# EAGLE library part PLL1707 (library OSSC_HDMI_Audio)
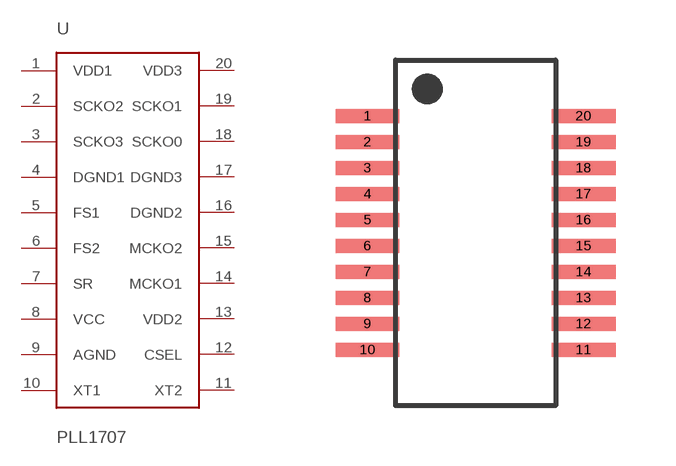
[diagram p0: symbol with the pads of PLL1707; footprint PLL1707]

Designator prefix -

## PLL1707  [PLL1707]
1  VDD1
2  SCKO2
3  SCKO3
4  DGND1
5  FS1
6  FS2
7  SR
8  VCC
9  AGND
10  XT1
11  XT2
12  CSEL
13  VDD2
14  MCKO1
15  MCKO2
16  DGND2
17  DGND3
18  SCKO0
19  SCKO1
20  VDD3

## Footprint PLL1707 (pad centres in mm)
smd 1.6 x 0.35: 1 -2.7,2.925; 2 -2.7,2.275; 3 -2.7,1.625; 4 -2.7,0.975; 5 -2.7,0.325; 6 -2.7,-0.325; 7 -2.7,-0.975; 8 -2.7,-1.625; 9 -2.7,-2.275; 10 -2.7,-2.925; 11 2.7,-2.925; 12 2.7,-2.275; 13 2.7,-1.625; 14 2.7,-0.975; 15 2.7,-0.325; 16 2.7,0.325; 17 2.7,0.975; 18 2.7,1.625; 19 2.7,2.275; 20 2.7,2.925